# Altium schematic symbol library SMF05C.SchLib: 1 symbol
Pins are listed as number, name and electrical type; pins without a type are passive.

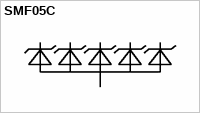
[diagram p0: symbol SMF05C]

## SMF05C
designator D?  (value not drawn)
TVS DIODE 5VWM 12.5VC SC70-6; Manufacturer: Semtech Corporation; Manufacturer Part Number: SMF05C.TCT; Digi-Key Part Number: SMF05CCT-ND; Supplier Device Package: SC-70-6
footprint SC70-6
pins: 1 C1, 2 A, 3 C2, 4 C3, 5 C4, 6 C5